# EAGLE library part MIC2981/2982 (library df4iah_dataconvertion)
MICREL MIC2981/2982 Open collector driver for 8 channels
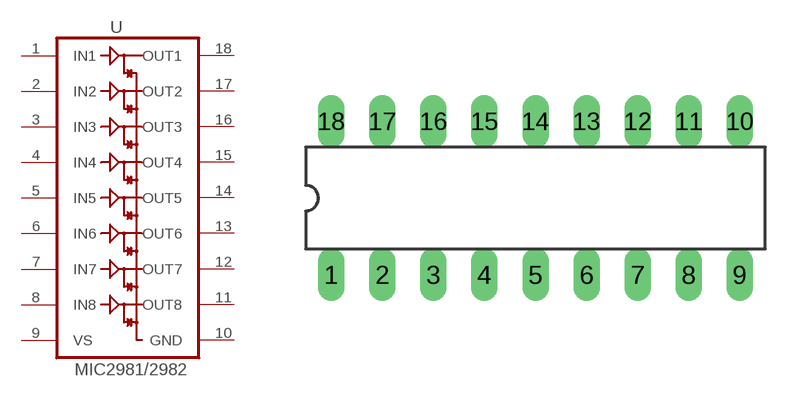
[diagram p3: symbol with the pads of DIL18; footprint DIL18]

Designator prefix -

## MIC2981/2982  [DIL18]
1  IN1  in
2  IN2  in
3  IN3  in
4  IN4  in
5  IN5  in
6  IN6  in
7  IN7  in
8  IN8  in
9  VS  pwr
10  GND  pwr
11  OUT8  oc
12  OUT7  oc
13  OUT6  oc
14  OUT5  oc
15  OUT4  oc
16  OUT3  oc
17  OUT2  oc
18  OUT1  oc

## Footprint DIL18 (pad centres in mm)
Dual In Line package type P
drill 0.813 long: 1 -10.16,-3.81; 2 -7.62,-3.81; 3 -5.08,-3.81; 4 -2.54,-3.81; 5 0,-3.81; 6 2.54,-3.81; 7 5.08,-3.81; 8 7.62,-3.81; 9 10.16,-3.81; 10 10.16,3.81; 11 7.62,3.81; 12 5.08,3.81; 13 2.54,3.81; 14 0,3.81; 15 -2.54,3.81; 16 -5.08,3.81; 17 -7.62,3.81; 18 -10.16,3.81